# EAGLE library part LED_BAR10 (library dreimalbe)
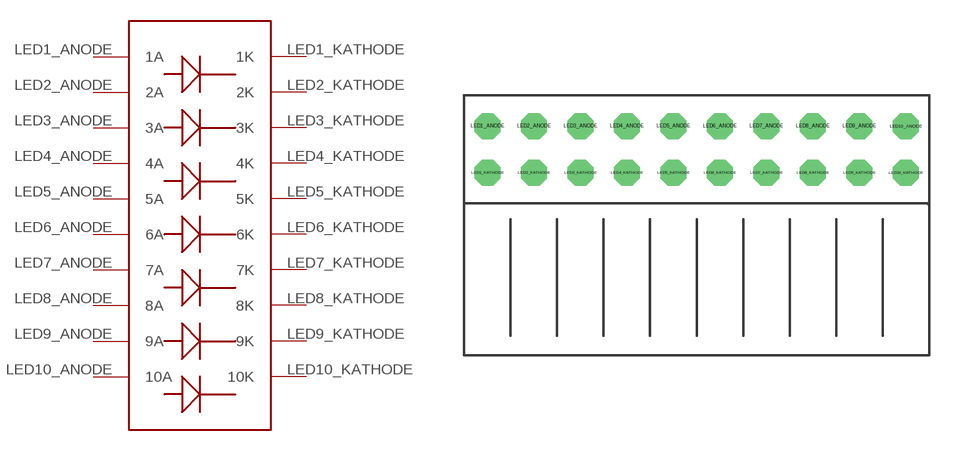
[diagram p3: symbol with the pads of LED_BAR10; footprint LED_BAR10]

Designator prefix -

## LED_BAR10  [LED_BAR10]
LED1_ANODE  1A
LED1_KATHODE  1K
LED2_ANODE  2A
LED2_KATHODE  2K
LED3_ANODE  3A
LED3_KATHODE  3K
LED4_ANODE  4A
LED4_KATHODE  4K
LED5_ANODE  5A
LED5_KATHODE  5K
LED6_ANODE  6A
LED6_KATHODE  6K
LED7_ANODE  7A
LED7_KATHODE  7K
LED8_ANODE  8A
LED8_KATHODE  8K
LED9_ANODE  9A
LED9_KATHODE  9K
LED10_ANODE  10A
LED10_KATHODE  10K

## Footprint LED_BAR10 (pad centres in mm)
drill 0.8 pad 1.422 octagon: LED1_ANODE -11.43,1.27; LED1_KATHODE -11.43,-1.27; LED2_ANODE -8.89,1.27; LED2_KATHODE -8.89,-1.27; LED3_ANODE -6.35,1.27; LED3_KATHODE -6.35,-1.27; LED4_ANODE -3.81,1.27; LED4_KATHODE -3.81,-1.27; LED5_ANODE -1.27,1.27; LED5_KATHODE -1.27,-1.27; LED6_ANODE 1.27,1.27; LED6_KATHODE 1.27,-1.27; LED7_ANODE 3.81,1.27; LED7_KATHODE 3.81,-1.27; LED8_ANODE 6.35,1.27; LED8_KATHODE 6.35,-1.27; LED9_ANODE 8.89,1.27; LED9_KATHODE 8.89,-1.27; LED10_ANODE 11.43,1.27; LED10_KATHODE 11.43,-1.27